# Altium integrated library Altera Cyclone II.IntLib: 204 symbols (part 27 of 40)
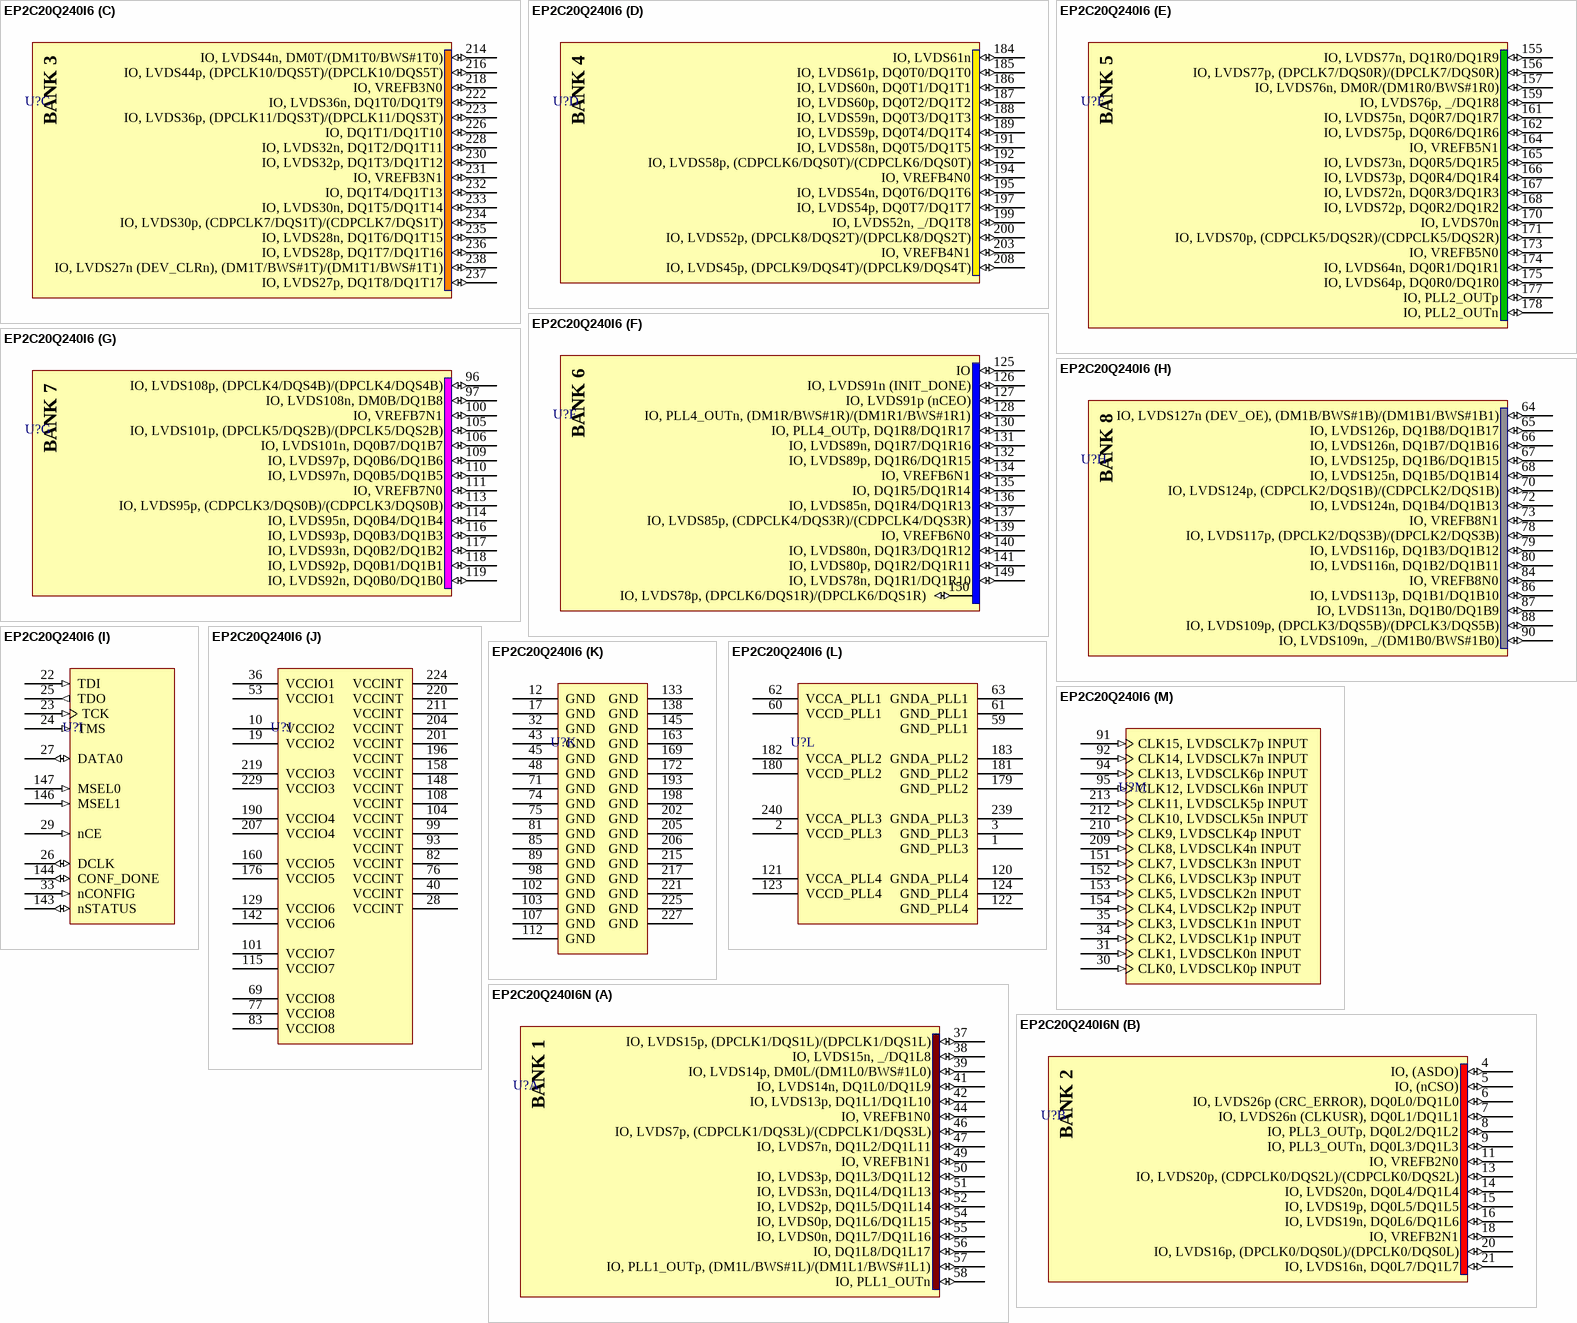
[diagram p449: symbols EP2C20Q240I6 to EP2C20Q240I6N]

## EP2C20Q240I6
designator U?
Cyclone II Family, 1.2V FPGA, 142 I/O Pins, 4 PLLs, 240-Pin PQFP, Speed Grade 6, Industrial Grade; Note: DQS signal pins named according to DQ bus modes.  "/" separates each mode. ie. Modes x8/x9 / Modes x16/x18.; Published: 2-Mar-2006; LatestRevisionDate: 30-Jun-2006; LatestRevisionNote: Changed DQ0B[3:0] to DQ1B[3:0] for DQS x16/x18.; DatasheetVersion: ver2.3, Mar-2006; PackageVersion: ver14.2, Oct-2005; PackageReference: PQFP240; Publisher: Altium Limited; PackageDescription: 240-Pin Plastic Quad Flat Pack (PQFP240); Code_JEDEC: MS-029-GA; ComponentLink1Description: Manufacturer Link; ComponentLink1URL: http://www.altera.com/products/devices/cyclone2/cy2-index.jsp; ComponentLink2Description: Handbook; ComponentLink2URL: http://www.altera.com/literature/hb/cyc2/cyc2_cii5v1.pdf; ComponentLink3Description: Packaging Specification; ComponentLink3URL: http://www.altera.com/literature/ds/dspkg.pdf
footprint PQFP240_N (Shrink QFP, 240-Leads, Body 32x32mm, Pitch 0.5mm, IPC Medium Density)
footprint PQFP240_L (Shrink QFP, 240-Leads, Body 32x32mm, Pitch 0.5mm, IPC High Density)
footprint PQFP240_M (Shrink QFP, 240-Leads, Body 32x32mm, Pitch 0.5mm, IPC Low Density)
3D model EP2C20-PQFP240 (240-Pin Plastic Quad Flat Pack (PQFP240))
signal-integrity model EP2C20Q_240 (Cyclone II)
part A pins: 37 IO, LVDS15p, (DPCLK1/DQS1L)/(DPCLK1/DQS1L) (io), 38 IO, LVDS15n, _/DQ1L8 (io), 39 IO, LVDS14p, DM0L/(DM1L0/BWS#1L0) (io), 41 IO, LVDS14n, DQ1L0/DQ1L9 (io), 42 IO, LVDS13p, DQ1L1/DQ1L10 (io), 44 IO, VREFB1N0 (io), 46 IO, LVDS7p, (CDPCLK1/DQS3L)/(CDPCLK1/DQS3L) (io), 47 IO, LVDS7n, DQ1L2/DQ1L11 (io), 49 IO, VREFB1N1 (io), 50 IO, LVDS3p, DQ1L3/DQ1L12 (io), 51 IO, LVDS3n, DQ1L4/DQ1L13 (io), 52 IO, LVDS2p, DQ1L5/DQ1L14 (io), 54 IO, LVDS0p, DQ1L6/DQ1L15 (io), 55 IO, LVDS0n, DQ1L7/DQ1L16 (io), 56 IO, DQ1L8/DQ1L17 (io), 57 IO, PLL1_OUTp, (DM1L/BWS#1L)/(DM1L1/BWS#1L1) (io), 58 IO, PLL1_OUTn (io)
part B pins: 4 IO, (ASDO) (io), 5 IO, (nCSO) (io), 6 IO, LVDS26p (CRC_ERROR), DQ0L0/DQ1L0 (io), 7 IO, LVDS26n (CLKUSR), DQ0L1/DQ1L1 (io), 8 IO, PLL3_OUTp, DQ0L2/DQ1L2 (io), 9 IO, PLL3_OUTn, DQ0L3/DQ1L3 (io), 11 IO, VREFB2N0 (io), 13 IO, LVDS20p, (CDPCLK0/DQS2L)/(CDPCLK0/DQS2L) (io), 14 IO, LVDS20n, DQ0L4/DQ1L4 (io), 15 IO, LVDS19p, DQ0L5/DQ1L5 (io), 16 IO, LVDS19n, DQ0L6/DQ1L6 (io), 18 IO, VREFB2N1 (io), 20 IO, LVDS16p, (DPCLK0/DQS0L)/(DPCLK0/DQS0L) (io), 21 IO, LVDS16n, DQ0L7/DQ1L7 (io)
part C pins: 214 IO, LVDS44n, DM0T/(DM1T0/BWS#1T0) (io), 216 IO, LVDS44p, (DPCLK10/DQS5T)/(DPCLK10/DQS5T) (io), 218 IO, VREFB3N0 (io), 222 IO, LVDS36n, DQ1T0/DQ1T9 (io), 223 IO, LVDS36p, (DPCLK11/DQS3T)/(DPCLK11/DQS3T) (io), 226 IO, DQ1T1/DQ1T10 (io), 228 IO, LVDS32n, DQ1T2/DQ1T11 (io), 230 IO, LVDS32p, DQ1T3/DQ1T12 (io), 231 IO, VREFB3N1 (io), 232 IO, DQ1T4/DQ1T13 (io), 233 IO, LVDS30n, DQ1T5/DQ1T14 (io), 234 IO, LVDS30p, (CDPCLK7/DQS1T)/(CDPCLK7/DQS1T) (io), 235 IO, LVDS28n, DQ1T6/DQ1T15 (io), 236 IO, LVDS28p, DQ1T7/DQ1T16 (io), 237 IO, LVDS27p, DQ1T8/DQ1T17 (io), 238 IO, LVDS27n (DEV_CLRn), (DM1T/BWS#1T)/(DM1T1/BWS#1T1) (io)
part D pins: 184 IO, LVDS61n (io), 185 IO, LVDS61p, DQ0T0/DQ1T0 (io), 186 IO, LVDS60n, DQ0T1/DQ1T1 (io), 187 IO, LVDS60p, DQ0T2/DQ1T2 (io), 188 IO, LVDS59n, DQ0T3/DQ1T3 (io), 189 IO, LVDS59p, DQ0T4/DQ1T4 (io), 191 IO, LVDS58n, DQ0T5/DQ1T5 (io), 192 IO, LVDS58p, (CDPCLK6/DQS0T)/(CDPCLK6/DQS0T) (io), 194 IO, VREFB4N0 (io), 195 IO, LVDS54n, DQ0T6/DQ1T6 (io), 197 IO, LVDS54p, DQ0T7/DQ1T7 (io), 199 IO, LVDS52n, _/DQ1T8 (io), 200 IO, LVDS52p, (DPCLK8/DQS2T)/(DPCLK8/DQS2T) (io), 203 IO, VREFB4N1 (io), 208 IO, LVDS45p, (DPCLK9/DQS4T)/(DPCLK9/DQS4T) (io)
part E pins: 155 IO, LVDS77n, DQ1R0/DQ1R9 (io), 156 IO, LVDS77p, (DPCLK7/DQS0R)/(DPCLK7/DQS0R) (io), 157 IO, LVDS76n, DM0R/(DM1R0/BWS#1R0) (io), 159 IO, LVDS76p, _/DQ1R8 (io), 161 IO, LVDS75n, DQ0R7/DQ1R7 (io), 162 IO, LVDS75p, DQ0R6/DQ1R6 (io), 164 IO, VREFB5N1 (io), 165 IO, LVDS73n, DQ0R5/DQ1R5 (io), 166 IO, LVDS73p, DQ0R4/DQ1R4 (io), 167 IO, LVDS72n, DQ0R3/DQ1R3 (io), 168 IO, LVDS72p, DQ0R2/DQ1R2 (io), 170 IO, LVDS70n (io), 171 IO, LVDS70p, (CDPCLK5/DQS2R)/(CDPCLK5/DQS2R) (io), 173 IO, VREFB5N0 (io), 174 IO, LVDS64n, DQ0R1/DQ1R1 (io), 175 IO, LVDS64p, DQ0R0/DQ1R0 (io), 177 IO, PLL2_OUTp (io), 178 IO, PLL2_OUTn (io)
part F pins: 125 IO (io), 126 IO, LVDS91n (INIT_DONE) (io), 127 IO, LVDS91p (nCEO) (io), 128 IO, PLL4_OUTn, (DM1R/BWS#1R)/(DM1R1/BWS#1R1) (io), 130 IO, PLL4_OUTp, DQ1R8/DQ1R17 (io), 131 IO, LVDS89n, DQ1R7/DQ1R16 (io), 132 IO, LVDS89p, DQ1R6/DQ1R15 (io), 134 IO, VREFB6N1 (io), 135 IO, DQ1R5/DQ1R14 (io), 136 IO, LVDS85n, DQ1R4/DQ1R13 (io), 137 IO, LVDS85p, (CDPCLK4/DQS3R)/(CDPCLK4/DQS3R) (io), 139 IO, VREFB6N0 (io), 140 IO, LVDS80n, DQ1R3/DQ1R12 (io), 141 IO, LVDS80p, DQ1R2/DQ1R11 (io), 149 IO, LVDS78n, DQ1R1/DQ1R10 (io), 150 IO, LVDS78p, (DPCLK6/DQS1R)/(DPCLK6/DQS1R) (io)
part G pins: 96 IO, LVDS108p, (DPCLK4/DQS4B)/(DPCLK4/DQS4B) (io), 97 IO, LVDS108n, DM0B/DQ1B8 (io), 100 IO, VREFB7N1 (io), 105 IO, LVDS101p, (DPCLK5/DQS2B)/(DPCLK5/DQS2B) (io), 106 IO, LVDS101n, DQ0B7/DQ1B7 (io), 109 IO, LVDS97p, DQ0B6/DQ1B6 (io), 110 IO, LVDS97n, DQ0B5/DQ1B5 (io), 111 IO, VREFB7N0 (io), 113 IO, LVDS95p, (CDPCLK3/DQS0B)/(CDPCLK3/DQS0B) (io), 114 IO, LVDS95n, DQ0B4/DQ1B4 (io), 116 IO, LVDS93p, DQ0B3/DQ1B3 (io), 117 IO, LVDS93n, DQ0B2/DQ1B2 (io), 118 IO, LVDS92p, DQ0B1/DQ1B1 (io), 119 IO, LVDS92n, DQ0B0/DQ1B0 (io)
part H pins: 64 IO, LVDS127n (DEV_OE), (DM1B/BWS#1B)/(DM1B1/BWS#1B1) (io), 65 IO, LVDS126p, DQ1B8/DQ1B17 (io), 66 IO, LVDS126n, DQ1B7/DQ1B16 (io), 67 IO, LVDS125p, DQ1B6/DQ1B15 (io), 68 IO, LVDS125n, DQ1B5/DQ1B14 (io), 70 IO, LVDS124p, (CDPCLK2/DQS1B)/(CDPCLK2/DQS1B) (io), 72 IO, LVDS124n, DQ1B4/DQ1B13 (io), 73 IO, VREFB8N1 (io), 78 IO, LVDS117p, (DPCLK2/DQS3B)/(DPCLK2/DQS3B) (io), 79 IO, LVDS116p, DQ1B3/DQ1B12 (io), 80 IO, LVDS116n, DQ1B2/DQ1B11 (io), 84 IO, VREFB8N0 (io), 86 IO, LVDS113p, DQ1B1/DQ1B10 (io), 87 IO, LVDS113n, DQ1B0/DQ1B9 (io), 88 IO, LVDS109p, (DPCLK3/DQS5B)/(DPCLK3/DQS5B) (io), 90 IO, LVDS109n, _/(DM1B0/BWS#1B0) (io)
part I pins: 22 TDI (in), 23 TCK (in), 24 TMS (in), 25 TDO (out), 26 DCLK (io), 27 DATA0 (io), 29 nCE (in), 33 nCONFIG (in), 143 nSTATUS (io), 144 CONF_DONE (io), 146 MSEL1 (in), 147 MSEL0 (in)
part J pins: 10 VCCIO2 (power), 19 VCCIO2 (power), 28 VCCINT (power), 36 VCCIO1 (power), 40 VCCINT (power), 53 VCCIO1 (power), 69 VCCIO8 (power), 76 VCCINT (power), 77 VCCIO8 (power), 82 VCCINT (power), 83 VCCIO8 (power), 93 VCCINT (power), 99 VCCINT (power), 101 VCCIO7 (power), 104 VCCINT (power), 108 VCCINT (power), 115 VCCIO7 (power), 129 VCCIO6 (power), 142 VCCIO6 (power), 148 VCCINT (power), 158 VCCINT (power), 160 VCCIO5 (power), 176 VCCIO5 (power), 190 VCCIO4 (power), 196 VCCINT (power), 201 VCCINT (power), 204 VCCINT (power), 207 VCCIO4 (power), 211 VCCINT (power), 219 VCCIO3 (power), 220 VCCINT (power), 224 VCCINT (power), 229 VCCIO3 (power)
part K pins: 12 GND (power), 17 GND (power), 32 GND (power), 43 GND (power), 45 GND (power), 48 GND (power), 71 GND (power), 74 GND (power), 75 GND (power), 81 GND (power), 85 GND (power), 89 GND (power), 98 GND (power), 102 GND (power), 103 GND (power), 107 GND (power), 112 GND (power), 133 GND (power), 138 GND (power), 145 GND (power), 163 GND (power), 169 GND (power), 172 GND (power), 193 GND (power), 198 GND (power), 202 GND (power), 205 GND (power), 206 GND (power), 215 GND (power), 217 GND (power), 221 GND (power), 225 GND (power), 227 GND (power)
part L pins: 1 GND_PLL3 (power), 2 VCCD_PLL3 (power), 3 GND_PLL3 (power), 59 GND_PLL1 (power), 60 VCCD_PLL1 (power), 61 GND_PLL1 (power), 62 VCCA_PLL1 (power), 63 GNDA_PLL1 (power), 120 GNDA_PLL4 (power), 121 VCCA_PLL4 (power), 122 GND_PLL4 (power), 123 VCCD_PLL4 (power), 124 GND_PLL4 (power), 179 GND_PLL2 (power), 180 VCCD_PLL2 (power), 181 GND_PLL2 (power), 182 VCCA_PLL2 (power), 183 GNDA_PLL2 (power), 239 GNDA_PLL3 (power), 240 VCCA_PLL3 (power)
part M pins: 30 CLK0, LVDSCLK0p INPUT (in), 31 CLK1, LVDSCLK0n INPUT (in), 34 CLK2, LVDSCLK1p INPUT (in), 35 CLK3, LVDSCLK1n INPUT (in), 91 CLK15, LVDSCLK7p INPUT (in), 92 CLK14, LVDSCLK7n INPUT (in), 94 CLK13, LVDSCLK6p INPUT (in), 95 CLK12, LVDSCLK6n INPUT (in), 151 CLK7, LVDSCLK3n INPUT (in), 152 CLK6, LVDSCLK3p INPUT (in), 153 CLK5, LVDSCLK2n INPUT (in), 154 CLK4, LVDSCLK2p INPUT (in), 209 CLK8, LVDSCLK4n INPUT (in), 210 CLK9, LVDSCLK4p INPUT (in), 212 CLK10, LVDSCLK5n INPUT (in), 213 CLK11, LVDSCLK5p INPUT (in)
part A text: BANK 1
part B text: BANK 2
part C text: BANK 3
part D text: BANK 4
part E text: BANK 5
part F text: BANK 6
part G text: BANK 7
part H text: BANK 8

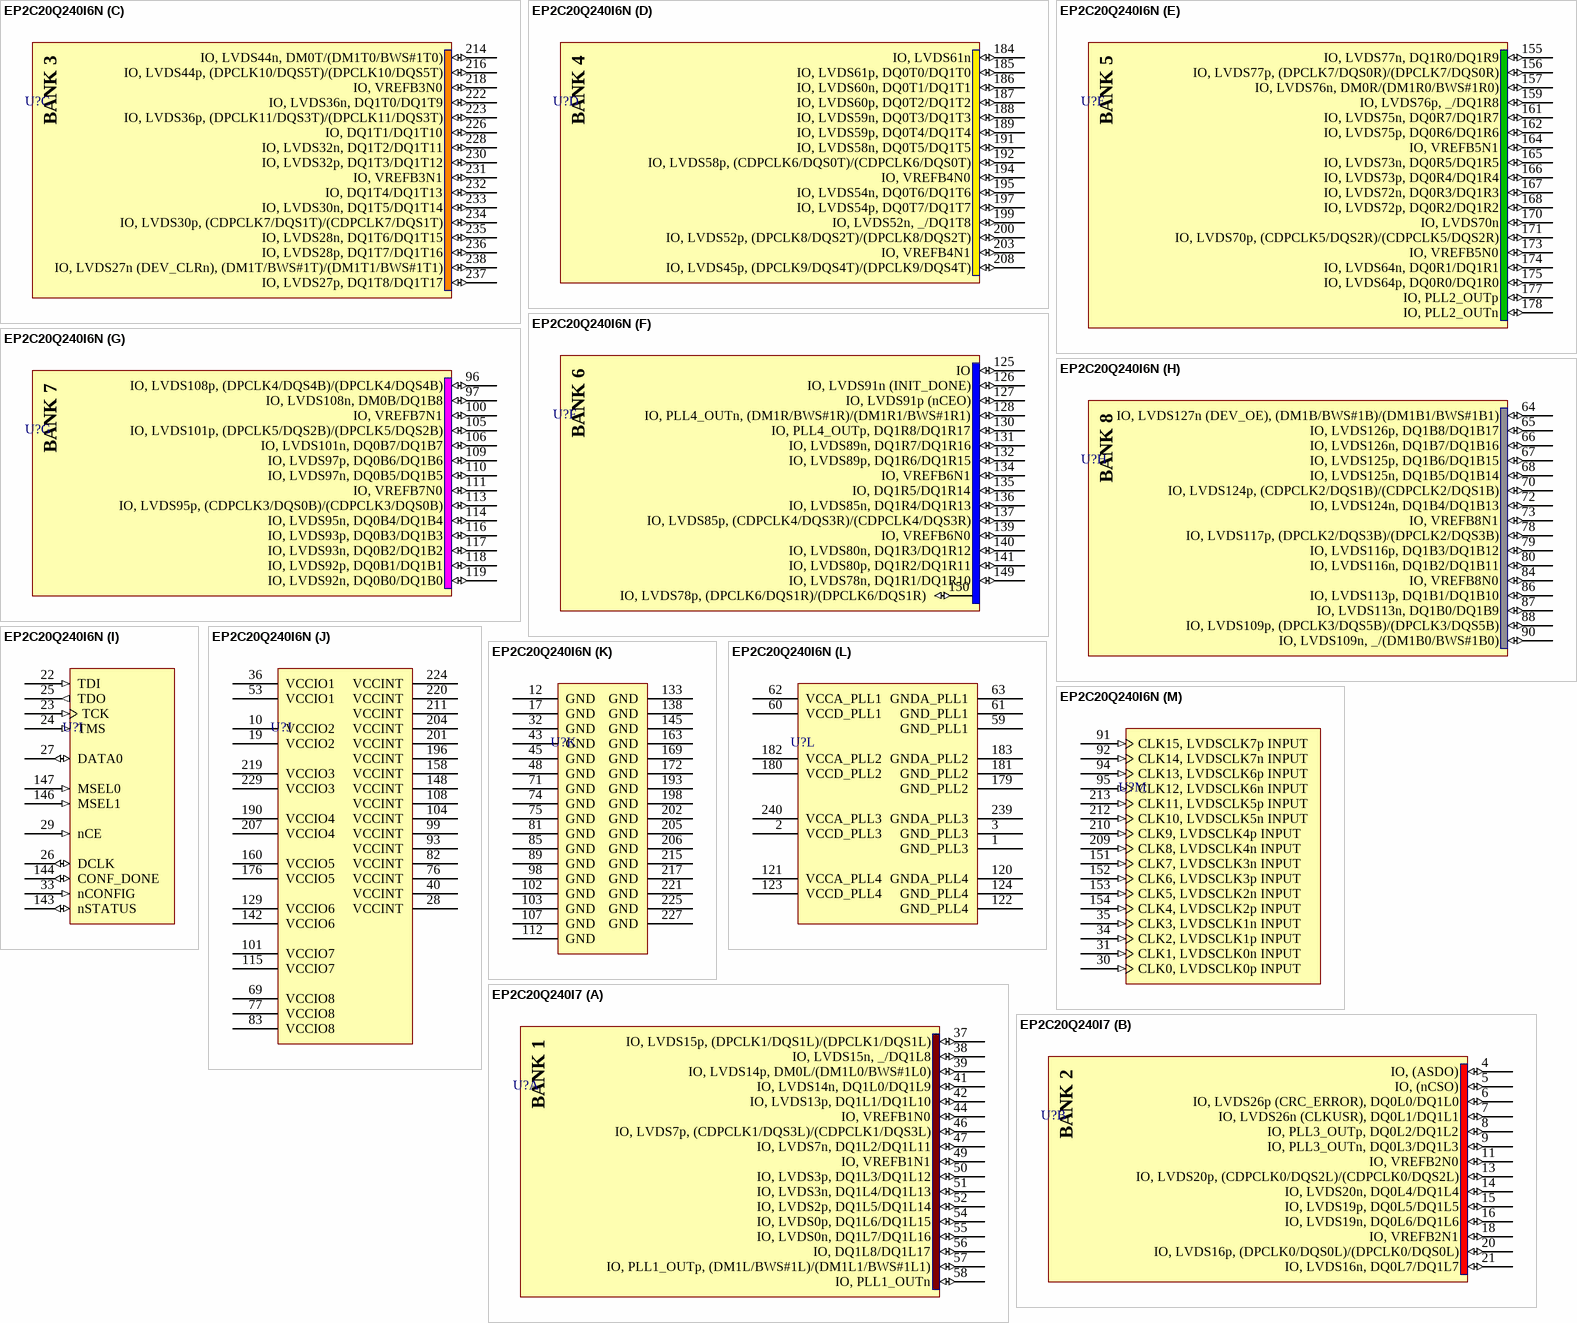
[diagram p97: symbols EP2C20Q240I6N to EP2C20Q240I7]